# Altium schematic symbol library CONDENSADOR4A.SchLib: 1 symbol
Pins are listed as number, name and electrical type; pins without a type are passive.

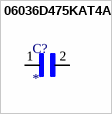
[diagram p0: symbol 06036D475KAT4A]

## 06036D475KAT4A
designator C?
Cap Ceramic 4.7uF 6.3V X5R 10% SMD 0603 85Â°C Paper T/R; MP: 06036D475KAT4A; Package: None; Price: None; Value: *; Availability: Unavailable
footprint CAPC1608X94N
pins: 1, 2